# Altium schematic symbol library SN74AHC1G125.Schlib: 1 symbol
Pins are listed as number, name and electrical type; pins without a type are passive.

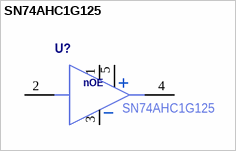
[diagram p0: symbol SN74AHC1G125]

## SN74AHC1G125
designator U?
Manufacturer Part Number: SN74AHC1G125
pins: 1 ~{OE}, 2, 3 GND, 4 OutY, 5 VCC
text: nOE